# Altium footprint library keystone_5019.PcbLib: 1 footprints
Each footprint in its own frame and in the unit in brackets; x right, y up, seen from the top. Pads: shape width x height; smd on the part's side, far side on the other; paste and mask are expansions set on the pad; w line width, h text height; cw(c..) or ccw(c..) is an arc to the next point about the centre after c.
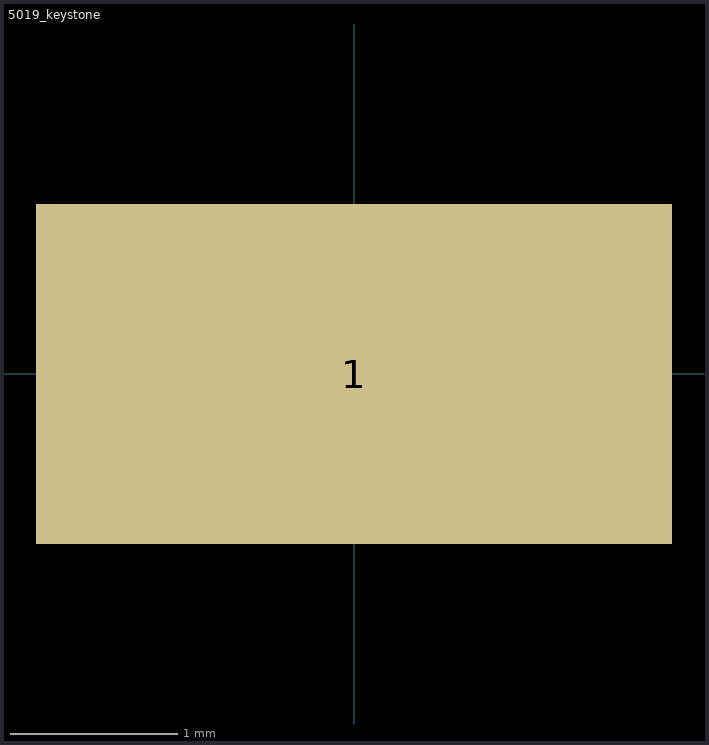
[diagram p0: the footprint, top view; thin cyan lines are the x and y axes]

## 5019_keystone [mm] "Keystone Test Point 5019"
height 2.3
pads (1):
  rect 3.8x2.03 smd: 1(0,0)
3D body "User Library-User Library-Keystone_5019.step": height 2.29, standoff 0.01, extent -1.905,-1.015 1.905,1.015